# EAGLE library part TDA7265/TDA7269 (library Audio-Power-amlifier V.2.0)
The TDA7265 is class AB dual Audio power amplifier assembled in the Multiwatt package, specially designed for high quality sound application as Hi-Fi music centers and stereo TV sets
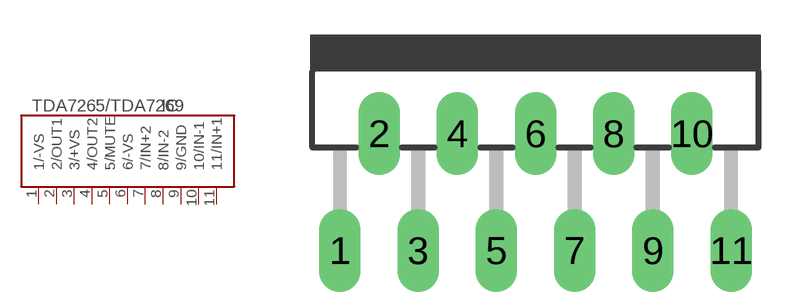
[diagram p213: symbol with the pads of MULTIWATT-11; footprint MULTIWATT-11]

Designator prefix IC

## TDA7265/TDA7269  [MULTIWATT-11]
1  1/-VS  pwr
2  2/OUT1  out
3  3/+VS  pwr
4  4/OUT2  out
5  5/MUTE  in
6  6/-VS  pwr
7  7/IN+2  in
8  8/IN-2  in
9  9/GND  pwr
10  10/IN-1  in
11  11/IN+1  in

## Footprint MULTIWATT-11 (pad centres in mm)
Muliwatt 11 lead
drill 1.2 long: 1 -8.5,-6.35; 2 -6.8,-1.27; 3 -5.1,-6.35; 4 -3.4,-1.27; 5 -1.7,-6.35; 6 0,-1.27; 7 1.7,-6.35; 8 3.4,-1.27; 9 5.1,-6.35; 10 6.8,-1.27; 11 8.5,-6.35